# Altium schematic symbol library AMT.SchLib: 5 symbols
Pins are listed as number, name and electrical type; pins without a type are passive.

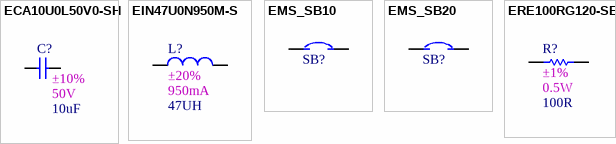
[diagram p0: symbols ECA10U0L50V0-SH to ERE100RG120-SE]

## ECA10U0L50V0-SH
designator C?, comment value 10uF  2nd Auxiliary Field: ±10%  1st Auxiliary Field: 50V  (hidden comment: CAP CER 10UF 50V X7R 1210)
Manufacturer: Taiyo Yuden; Vendor Part Number: 587-6026-1-ND; Manufacturer Part Number: UMJ325KB7106KMHP; Internal Part Number: ECA10U0L50V0-SH; Vendor Name: Digi-Key; 3rd Auxiliary Field: RoHS Compliant; 4th Auxiliary Field: AEC-Q200; Component Height (mm): 2.80mm; Temp Co: -55°C ~ 125°C; Part Type: CAP CER 10UF 50V X7R 1210
footprint SMDC1210 (GRM32ER71A476KE15L, CAP CER 47UF 10V X7R 1210)
pins: 1, 2

## EIN47U0N950M-S
designator L?, comment value 47UH  2nd Auxiliary Field: ±20%  1st Auxiliary Field: 950mA  (hidden comment: FIXED IND 47UH 700MA 422.5 MOHM)
Manufacturer: Taiyo Yuden; Vendor Part Number: 587-3604-1-ND; Manufacturer Part Number: NRS5030T470MMGJV; Internal Part Number: EIN47U0N950M-S; Vendor Name: Digi-Key; 3rd Auxiliary Field: RoHS Compliant; 4th Auxiliary Field: AEC-Q200; Component Height (mm): 3.00mm; Temp Co: -40°C ~ 125°C; Part Type: FIXED IND 47UH 700MA 422.5 MOHM
footprint INDC4949X310N (Footprint not found)
pins: 1, 2

## EMS_SB10
designator SB?  (value not drawn)  (net tie, no BOM)
*; Manufacturer: *; Part Type: *; Vendor Name: *; Vendor Part Number: *; 3rd Auxiliary Field: *; Manufacturer Part Number: *; Internal Part Number: EMS_SB10; 4th Auxiliary Field: *; Component Height (mm): *; Temp Co: *; 2nd Auxiliary Field: *; 1st Auxiliary Field: *; Value: *
footprint SB_10 (Footprint not found)
pins: 1, 2

## EMS_SB20
designator SB?  (value not drawn)  (net tie, no BOM)
*; Manufacturer: *; Part Type: *; Vendor Name: *; Vendor Part Number: *; 3rd Auxiliary Field: *; Manufacturer Part Number: *; Internal Part Number: EMS_SB20; 4th Auxiliary Field: *; Component Height (mm): *; Temp Co: *; 2nd Auxiliary Field: *; 1st Auxiliary Field: *; Value: *
footprint SB_20 (Footprint not found)
pins: 1, 2

## ERE100RG120-SE
designator R?, comment value 100R  2nd Auxiliary Field: ±1%  1st Auxiliary Field: 0.5W  (hidden comment: RES SMD 100 OHM 1% 1/2W 0805)
Manufacturer Part Number: ERJ-P06F1000V; Manufacturer: Panasonic Electronic Components; Internal Part Number: ERE100RG120-SE; Vendor Part Number: P16057CT-ND; Component Height (mm): 0.70mm; 3rd Auxiliary Field: RoHS Compliant; 4th Auxiliary Field: AEC-Q200; Vendor Name: Digi-Key; Temp Co: -55°C ~ 155°C; Part Type: RES SMD 100 OHM 1% 1/2W 0805
footprint SMDR0805 (Footprint not found)
pins: 1, 2